# EAGLE library part MCP6002 (library EnviroTron)
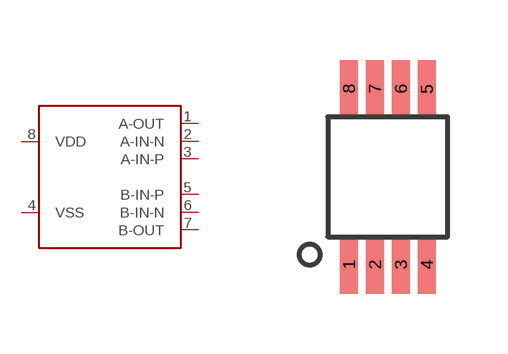
[diagram p3: symbol with the pads of MSOP-8; footprint MSOP-8]

Designator prefix -

## MCP6002 (MPN: MCP6002T-I/MS; PN-DK: MCP6002T-I/MSCT-ND)  [MSOP-8]
1  A-OUT
2  A-IN-N
3  A-IN-P
4  VSS
5  B-IN-P
6  B-IN-N
7  B-OUT
8  VDD

## Footprint MSOP-8 (pad centres in mm)
smd 0.45 x 1.45: 1 -0.975,-2.2; 2 -0.325,-2.2; 3 0.325,-2.2; 4 0.975,-2.2; 5 0.975,2.2; 6 0.325,2.2; 7 -0.325,2.2; 8 -0.975,2.2